# Altium integrated library LM2903P.IntLib: 1 symbol
Pins are listed as number, name and electrical type; pins without a type are passive.

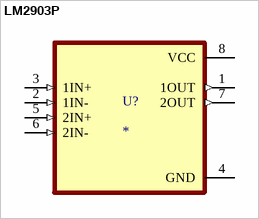
[diagram p0: symbol LM2903P]

## LM2903P
designator U?
Dual differential comparator; MF: Texas Instruments; MP: LM2903P; SnapEDA_Link: https://www.snapeda.com/parts/LM2903P/Texas+Instruments/view-part/?ref=snap; Package: PDIP-8 Texas; Value: *; Check_prices: https://www.snapeda.com/parts/LM2903P/Texas+Instruments/view-part/?ref=eda
footprint DIP794W45P254L959H508Q8
pins: 1 1OUT (out), 2 1IN- (in), 3 1IN+ (in), 4 GND (power), 5 2IN+ (in), 6 2IN- (in), 7 2OUT (out), 8 VCC (power)